# Altium schematic symbol library Schlib3.SchLib: 1 symbol
Pins are listed as number, name and electrical type; pins without a type are passive.

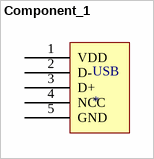
[diagram p0: symbol Component_1]

## Component_1
designator USB
footprint USB
pins: 1 VDD, 2 D-, 3 D+, 4 NCC, 5 GND